# Altium schematic symbol library MCP73837.SchLib: 1 symbol
Pins are listed as number, name and electrical type; pins without a type are passive.

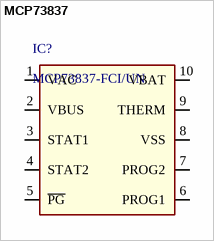
[diagram p0: symbol MCP73837]

## MCP73837
designator IC?, comment MCP73837-FCI/UN
ID: MCP73837-FCI/UN; PRICE: 1.34000; BUY_LINK: http://www.digikey.com/product-detail/en/MCP73837-FCI%2FUN/MCP73837-FCI%2FUN-ND/1874132; PDF: http://www.microchip.com/mymicrochip/filehandler.aspx?ddocname=en533248
footprint MSOP10
pins: 1 VAC, 2 VBUS, 3 STAT1, 4 STAT2, 5 ~{PG}, 6 PROG1, 7 PROG2, 8 VSS, 9 THERM, 10 VBAT